# EAGLE library part XC2C128-7CPG132C (library CPLD)
IC CPLD 128MC 7NS 132BGA Manufacturer's datasheet <https://www.xilinx.com/support/documentation/data_sheets/ds093.pdf>
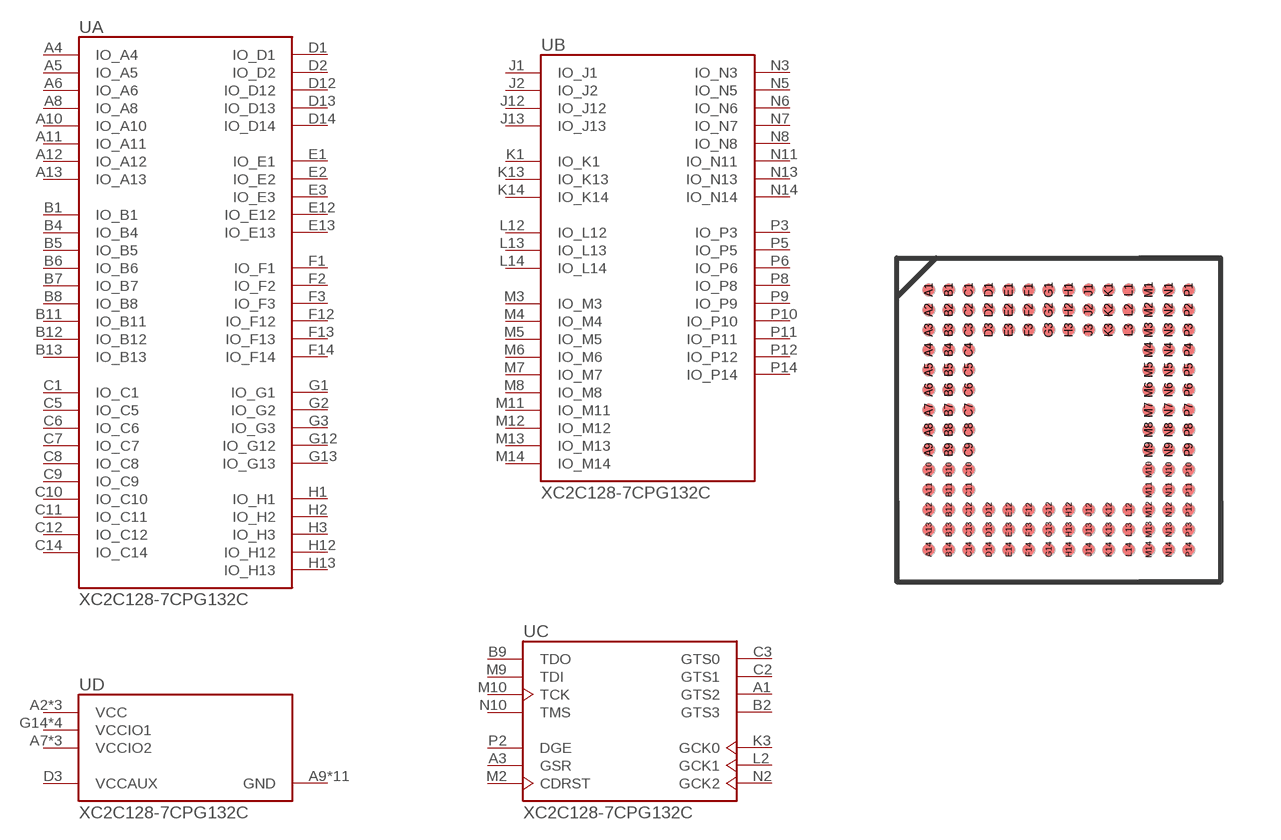
[diagram p4: symbol with the pads of BGA132; footprint BGA132]

Designator prefix U; gates A=XC2C128-7CPG132C_IO1 B=XC2C128-7CPG132C_IO2 D=XC2C128-7CPG132C_PWR C=XC2C128-7CPG132C_CLK_JTAG

## XC2C128-7CPG132C (CREATED_BY: PCBLayout.com; DIGIKEY_PARTNO: 122-1397-ND; MANUFACTURE: Xilinx Inc.; MPN: XC2C128-7TQG144C; PACKAGE: CP-132 BGA)  [BGA132]
A1  C:GTS2
A2  D:VCC  pwr
A3  C:GSR
A4  A:IO_A4
A5  A:IO_A5
A6  A:IO_A6
A7  D:VCCIO2  pwr
A8  A:IO_A8
A9  D:GND  pwr
A10  A:IO_A10
A11  A:IO_A11
A12  A:IO_A12
A13  A:IO_A13
A14  D:VCCIO2  pwr
B1  A:IO_B1
B2  C:GTS3
B3  D:GND  pwr
B4  A:IO_B4
B5  A:IO_B5
B6  A:IO_B6
B7  A:IO_B7
B8  A:IO_B8
B9  C:TDO  out
B11  A:IO_B11
B12  A:IO_B12
B13  A:IO_B13
B14  D:GND  pwr
C1  A:IO_C1
C2  C:GTS1
C3  C:GTS0
C4  D:VCCIO2  pwr
C5  A:IO_C5
C6  A:IO_C6
C7  A:IO_C7
C8  A:IO_C8
C9  A:IO_C9
C10  A:IO_C10
C11  A:IO_C11
C12  A:IO_C12
C14  A:IO_C14
D1  A:IO_D1
D2  A:IO_D2
D3  D:VCCAUX  pwr
D12  A:IO_D12
D13  A:IO_D13
D14  A:IO_D14
E1  A:IO_E1
E2  A:IO_E2
E3  A:IO_E3
E12  A:IO_E12
E13  A:IO_E13
E14  D:GND  pwr
F1  A:IO_F1
F2  A:IO_F2
F3  A:IO_F3
F12  A:IO_F12
F13  A:IO_F13
F14  A:IO_F14
G1  A:IO_G1
G2  A:IO_G2
G3  A:IO_G3
G12  A:IO_G12
G13  A:IO_G13
G14  D:VCCIO1  pwr
H1  A:IO_H1
H2  A:IO_H2
H3  A:IO_H3
H12  A:IO_H12
H13  A:IO_H13
H14  D:GND  pwr
J1  B:IO_J1
J2  B:IO_J2
J3  D:VCCIO1  pwr
J12  B:IO_J12
J13  B:IO_J13
J14  D:GND  pwr
K1  B:IO_K1
K2  D:GND  pwr
K3  C:GCK0
K12  D:VCC  pwr
K13  B:IO_K13
K14  B:IO_K14
L2  C:GCK1
L12  B:IO_L12
L13  B:IO_L13
L14  B:IO_L14
M2  C:CDRST
M3  B:IO_M3
M4  B:IO_M4
M5  B:IO_M5
M6  B:IO_M6
M7  B:IO_M7
M8  B:IO_M8
M9  C:TDI  in
M10  C:TCK
M11  B:IO_M11
M12  B:IO_M12
M13  B:IO_M13
M14  B:IO_M14
N1  D:GND  pwr
N2  C:GCK2
N3  B:IO_N3
N5  B:IO_N5
N6  B:IO_N6
N7  B:IO_N7
N8  B:IO_N8
N9  D:GND  pwr
N10  C:TMS
N11  B:IO_N11
N12  D:GND  pwr
N13  B:IO_N13
N14  B:IO_N14
P1  D:VCC  pwr
P2  C:DGE  in
P3  B:IO_P3
P4  D:GND  pwr
P5  B:IO_P5
P6  B:IO_P6
P7  D:VCCIO1  pwr
P8  B:IO_P8
P9  B:IO_P9
P10  B:IO_P10
P11  B:IO_P11
P12  B:IO_P12
P13  D:VCCIO1  pwr
P14  B:IO_P14

## Footprint BGA132 (pad centres in mm)
smd 0.3 x 0.3: A1 -3.25,3.25; A2 -3.25,2.75; A3 -3.25,2.25; A4 -3.25,1.75; A5 -3.25,1.25; A6 -3.25,0.75; A7 -3.25,0.25; A8 -3.25,-0.25; A9 -3.25,-0.75; A10 -3.25,-1.25; A11 -3.25,-1.75; A12 -3.25,-2.25; A13 -3.25,-2.75; A14 -3.25,-3.25; B1 -2.75,3.25; B2 -2.75,2.75; B3 -2.75,2.25; B4 -2.75,1.75; B5 -2.75,1.25; B6 -2.75,0.75; B7 -2.75,0.25; B8 -2.75,-0.25; B9 -2.75,-0.75; B10 -2.75,-1.25; B11 -2.75,-1.75; B12 -2.75,-2.25; B13 -2.75,-2.75; B14 -2.75,-3.25; C1 -2.25,3.25; C2 -2.25,2.75; C3 -2.25,2.25; C4 -2.25,1.75; C5 -2.25,1.25; C6 -2.25,0.75; C7 -2.25,0.25; C8 -2.25,-0.25; C9 -2.25,-0.75; C10 -2.25,-1.25; C11 -2.25,-1.75; C12 -2.25,-2.25; C13 -2.25,-2.75; C14 -2.25,-3.25; D1 -1.75,3.25; D2 -1.75,2.75; D3 -1.75,2.25; D12 -1.75,-2.25; D13 -1.75,-2.75; D14 -1.75,-3.25; E1 -1.25,3.25; E2 -1.25,2.75; E3 -1.25,2.25; E12 -1.25,-2.25; E13 -1.25,-2.75; E14 -1.25,-3.25; F1 -0.75,3.25; F2 -0.75,2.75; F3 -0.75,2.25; F12 -0.75,-2.25; F13 -0.75,-2.75; F14 -0.75,-3.25; G1 -0.25,3.25; G2 -0.25,2.75; G3 -0.25,2.25; G12 -0.25,-2.25; G13 -0.25,-2.75; G14 -0.25,-3.25; H1 0.25,3.25; H2 0.25,2.75; H3 0.25,2.25; H12 0.25,-2.25; H13 0.25,-2.75; H14 0.25,-3.25; J1 0.75,3.25; J2 0.75,2.75; J3 0.75,2.25; J12 0.75,-2.25; J13 0.75,-2.75; J14 0.75,-3.25; K1 1.25,3.25; K2 1.25,2.75; K3 1.25,2.25; K12 1.25,-2.25; K13 1.25,-2.75; K14 1.25,-3.25; L1 1.75,3.25; L2 1.75,2.75; L3 1.75,2.25; L12 1.75,-2.25; L13 1.75,-2.75; L14 1.75,-3.25; M1 2.25,3.25; M2 2.25,2.75; M3 2.25,2.25; M4 2.25,1.75; M5 2.25,1.25; M6 2.25,0.75; M7 2.25,0.25; M8 2.25,-0.25; M9 2.25,-0.75; M10 2.25,-1.25; M11 2.25,-1.75; M12 2.25,-2.25; M13 2.25,-2.75; M14 2.25,-3.25; N1 2.75,3.25; N2 2.75,2.75; N3 2.75,2.25; N4 2.75,1.75; N5 2.75,1.25; N6 2.75,0.75; N7 2.75,0.25; N8 2.75,-0.25; N9 2.75,-0.75; N10 2.75,-1.25; N11 2.75,-1.75; N12 2.75,-2.25; N13 2.75,-2.75; N14 2.75,-3.25; P1 3.25,3.25; P2 3.25,2.75; P3 3.25,2.25; P4 3.25,1.75; P5 3.25,1.25; P6 3.25,0.75; P7 3.25,0.25; P8 3.25,-0.25; P9 3.25,-0.75; P10 3.25,-1.25; P11 3.25,-1.75; P12 3.25,-2.25; P13 3.25,-2.75; P14 3.25,-3.25